# Altium schematic symbol library led_lcd.schlib: 15 symbols
Pins are listed as number, name and electrical type; pins without a type are passive.

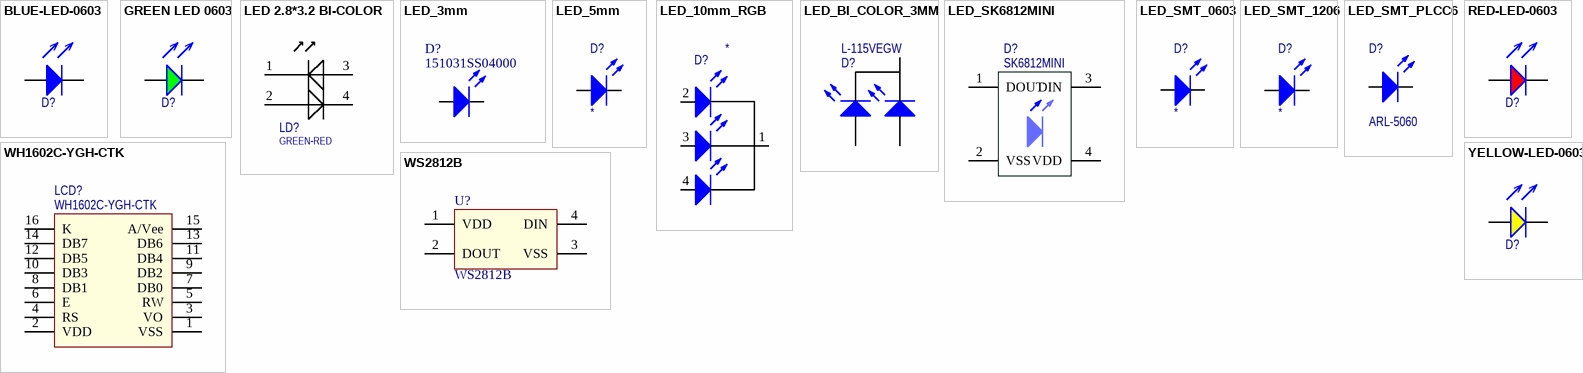
[diagram p0: symbols BLUE-LED-0603 to YELLOW-LED-0603]

## BLUE-LED-0603
designator D?, comment Blue 465nm  (value not drawn)
BLUE LED 0603, 40°; Part: APTD1608LQBC/D; Alternative Part: *; Color: Blue 465nm
footprint LED 0603 BLUE, 40°
pins: 1, 2

## GREEN LED 0603
designator D?, comment Emerald Green 515nm  (value not drawn)
GREEN LED 0603, 60°; Part: APTD1608ZGC; Alternative Part: *; Color: Emerald Green 515nm
footprint LED 0603 GREEN, 60°
pins: 1, 2

## LED 2.8*3.2 BI-COLOR
designator LD?, comment GREEN-RED
footprint LEDSMT
pins: 1, 2, 3, 4

## LED_3mm
designator D?, comment 151031SS04000
footprint LED_3mm
pins: 1 A, 2 K

## LED_5mm
designator D?
Typical INFRARED GaAs LED; Value: *; Color: *
footprint LED_5mm
footprint LED_5mm_long
pins: 1 A, 2 K

## LED_10mm_RGB
designator D?
10mm_RGB; Value: *; Color: *
footprint LED_10mm_backSMD
pins: 1, 2, 3, 4

## LED_BI_COLOR_3MM
designator D?, comment L-115VEGW
footprint LED_BI_3mm
pins: 1 AR, 2 K, 3 AG

## LED_SK6812MINI
designator D?, comment SK6812MINI
LED_DIGTAL_RGB; Value: *; Color: *
footprint SK6812MINI
pins: 1 DOUT, 2 VSS, 3 DIN, 4 VDD

## LED_SMT_0603
designator D?
Value: *; Color: *; Part: *
footprint LED_0603
pins: 1 A, 2 K

## LED_SMT_1206
designator D?
Typical INFRARED GaAs LED; Value: *; Color: *
footprint LED_1206
pins: 1 A, 2 K

## LED_SMT_PLCC6
designator D?, comment ARL-5060
footprint PLCC-6 (SMD LED)
pins: 1 A, 2 K

## RED-LED-0603
designator D?, comment Red 645nm  (value not drawn)
RED LED 0603, 60°; Part: APTD1608LSURCK; Color: Red 645nm; Alternative Part: *
footprint LED 0603 RED, 60°
pins: 1, 2

## WH1602C-YGH-CTK
designator LCD?
LatestRevisionDate: 17-Jul-2002; LatestRevisionNote: Re-released for DXP Platform.; Publisher: Altium Limited
footprint WH1602C-YGH-CTK
pins: 1 VSS, 2 VDD, 3 VO, 4 RS, 5 RW, 6 E, 7 DB0, 8 DB1, 9 DB2, 10 DB3, 11 DB4, 12 DB5, 13 DB6, 14 DB7, 15 A/Vee, 16 K, 17 hidden, 18 hidden, 19 hidden, 20 hidden

## WS2812B
designator U?
Intelligent LED; Part: WS2812B; Alternative Part: -
footprint WS2812B
pins: 1 VDD, 2 DOUT, 3 VSS, 4 DIN

## YELLOW-LED-0603
designator D?, comment Yellow 590nm  (value not drawn)
YELLOW LED 0603, 60°; Part: APTD1608SYCK; Alternative Part: *; Color: Yellow 590nm
footprint LED 0603 YELLOW, 60°
pins: 1, 2